# EAGLE library part TPS6112X (library xess)
Switching Regulator With integrated switch and auxiliary LDO output.
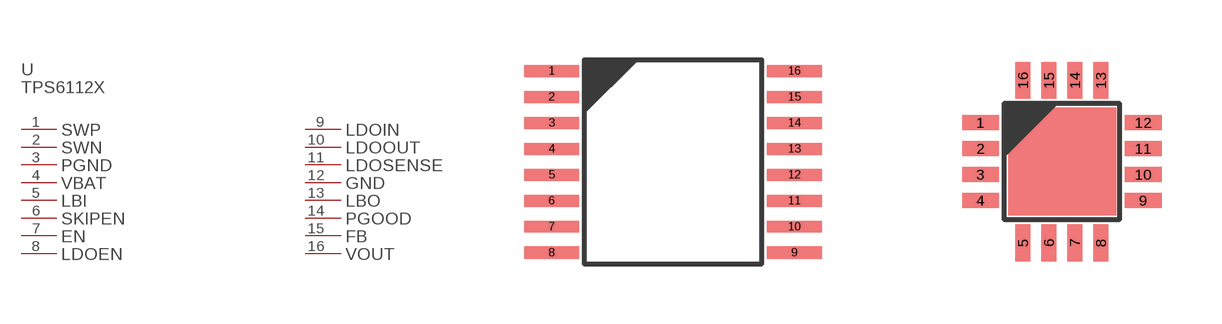
[diagram p76: symbol with the pads of TPS6112X; footprints TPS6112X, TPS6112XQFN]

Designator prefix U; gates PART_VALUE=PART_VALUE-TPS6112X SWP=PL-TPS6112X SWN=PL-TPS6112X PGND=PL-TPS6112X VBAT=PL-TPS6112X LBI=PL-TPS6112X SKIPEN=PL-TPS6112X EN=PL-TPS6112X LDOEN=PL-TPS6112X LDOIN=PL-TPS6112X LDOOUT=PL-TPS6112X LDOSENSE=PL-TPS6112X GND=PL-TPS6112X LBO=PL-TPS6112X PGOOD=PL-TPS6112X FB=PL-TPS6112X VOUT=PL-TPS6112X

## TPS6112XPW  [TPS6112X]
1  SWP:P$1
2  SWN:P$1
3  PGND:P$1
4  VBAT:P$1
5  LBI:P$1
6  SKIPEN:P$1
7  EN:P$1
8  LDOEN:P$1
9  LDOIN:P$1
10  LDOOUT:P$1
11  LDOSENSE:P$1
12  GND:P$1
13  LBO:P$1
14  PGOOD:P$1
15  FB:P$1
16  VOUT:P$1

## TPS6112XQFN  [TPS6112XQFN]
Pads as for TPS6112X

## Footprint TPS6112X (pad centres in mm)
smd 1.37 x 0.3: 1 -0.11,0; 2 -0.11,-0.65; 3 -0.11,-1.3; 4 -0.11,-1.95; 5 -0.11,-2.6; 6 -0.11,-3.25; 7 -0.11,-3.9; 8 -0.11,-4.55; 9 5.96,-4.55; 10 5.96,-3.9; 11 5.96,-3.25; 12 5.96,-2.6; 13 5.96,-1.95; 14 5.96,-1.3; 15 5.96,-0.65; 16 5.96,0

## Footprint TPS6112XQFN (pad centres in mm)
smd 0.92 x 0.38: 1 -0.21,0; 2 -0.21,-0.65; 3 -0.21,-1.3; 4 -0.21,-1.95; 9 3.86,-1.95; 10 3.86,-1.3; 11 3.86,-0.65; 12 3.86,0
smd 0.38 x 0.92: 5 0.85,-3.01; 6 1.5,-3.01; 7 2.15,-3.01; 8 2.8,-3.01; 13 2.8,1.06; 14 2.15,1.06; 15 1.5,1.06; 16 0.85,1.06